# Altium footprint library QFN28G_0.5-5X5MM.PcbLib: 1 footprints
Each footprint in its own frame and in the unit in brackets; x right, y up, seen from the top. Pads: shape width x height; smd on the part's side, far side on the other; paste and mask are expansions set on the pad; w line width, h text height; cw(c..) or ccw(c..) is an arc to the next point about the centre after c.
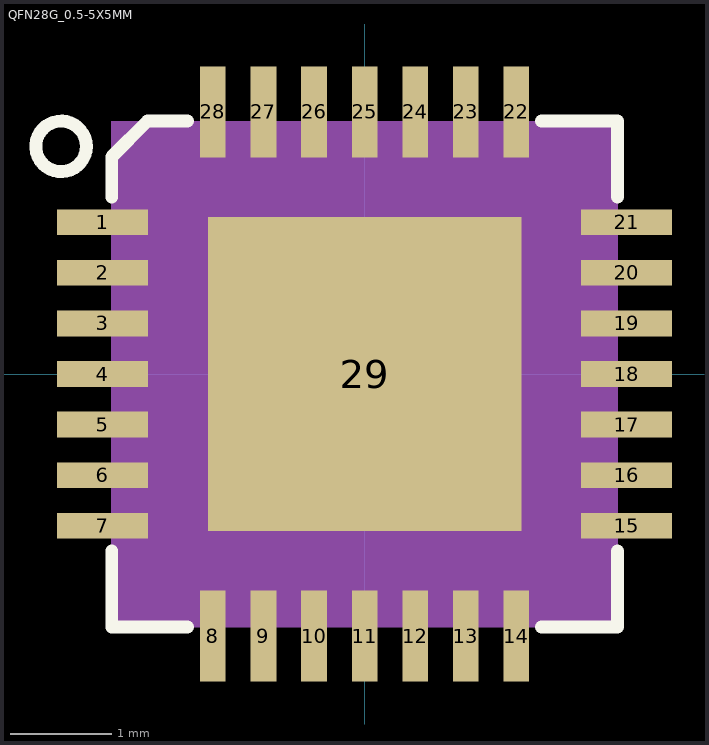
[diagram p0: the footprint, top view; thin cyan lines are the x and y axes]

## QFN28G_0.5-5X5MM [mm]
pads (29):
  rect 0.9x0.254 smd: 1(-2.59,1.5) 2(-2.59,1) 3(-2.59,0.5) 4(-2.59,0) 5(-2.59,-0.5) 6(-2.59,-1) 7(-2.59,-1.5) 15(2.59,-1.5) 16(2.59,-1) 17(2.59,-0.5) 18(2.59,0) 19(2.59,0.5) 20(2.59,1) 21(2.59,1.5)
  rect 0.254x0.9 smd: 8(-1.5,-2.59) 9(-1,-2.59) 10(-0.5,-2.59) 11(0,-2.59) 12(0.5,-2.59) 13(1,-2.59) 14(1.5,-2.59) 22(1.5,2.59) 23(1,2.59) 24(0.5,2.59) 25(0,2.59) 26(-0.5,2.59) 27(-1,2.59) 28(-1.5,2.59)
  rect 3.1x3.1 smd paste-3: 29(0,0)
Top Overlay:
  circle w0.127: c-3,2.25 r0.25
  lines w0.127: -2.5,-1.75 -2.5,-2.5 -1.75,-2.5 ; -2.5,1.75 -2.5,2.146 -2.146,2.5 -1.75,2.5 ; 1.75,-2.5 2.5,-2.5 2.5,-1.75 ; 1.75,2.5 2.5,2.5 2.5,1.75
Top Paste:
  region: -0.25,0.25 -1.502,0.25 -1.502,1.5 -0.25,1.5
  region: 1.5,0.25 0.25,0.25 0.25,1.5 1.5,1.5
  region: -0.25,-1.503 -1.503,-1.503 -1.503,-0.25 -0.25,-0.25
  region: 1.5,-1.503 0.25,-1.503 0.25,-0.25 1.5,-0.25
Mechanical 15:
  region: 2.5,-2.505 -2.505,-2.505 -2.505,2.5 2.5,2.5
3D body "step_temp.STEP": height 1, standoff 0, extent -2.5,-2.5 2.5,2.5